# Altium schematic symbol library button.SchLib: 1 symbol
Pins are listed as number, name and electrical type; pins without a type are passive.

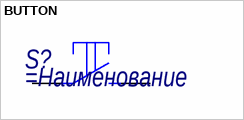
[diagram p0: symbol BUTTON]

## BUTTON
designator S?
=Описание
pins: 1, 2